# EAGLE library part LM211N (library ST Microelctronics_By_element14_Batch_1)
Voltage comparator with strobe
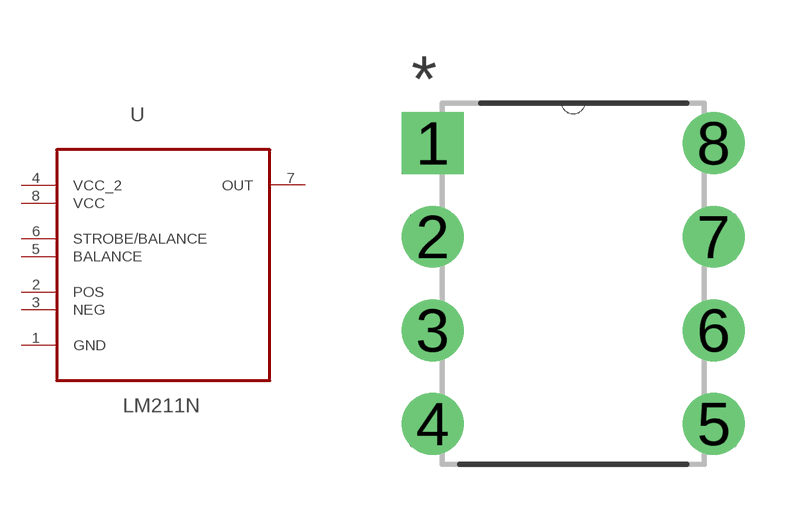
[diagram p86: symbol with the pads of DIP254P762X480-8; footprint DIP254P762X480-8]

Designator prefix U

## LM211N (MPN: LM211N; OC_FARNELL: 1467678; OC_NEWARK: 89K0652; PACKAGE: 8-DIP; SUPPLIER: STMICROELECTRONICS)  [DIP254P762X480-8]
1  GND  pas
2  POS  in
3  NEG  in
4  VCC_2  pwr
5  BALANCE  pas
6  STROBE/BALANCE  pas
7  OUT  out
8  VCC  pwr

## Footprint DIP254P762X480-8 (pad centres in mm)
drill 1.118 square: 1 -7.62,7.62
drill 1.118: 2 -7.62,5.08; 3 -7.62,2.54; 4 -7.62,0; 5 0,0; 6 0,2.54; 7 0,5.08; 8 0,7.62